# EAGLE library part CPL-REG-SWI-5V-3A (library TinWhiskers)
Voltage Regulator: Switching, Buck-type, Vout=5.0V, Iout=3A; Package: TO263-5 Datasheet: http://www.micrel.com/_PDF/lm2576.pdf
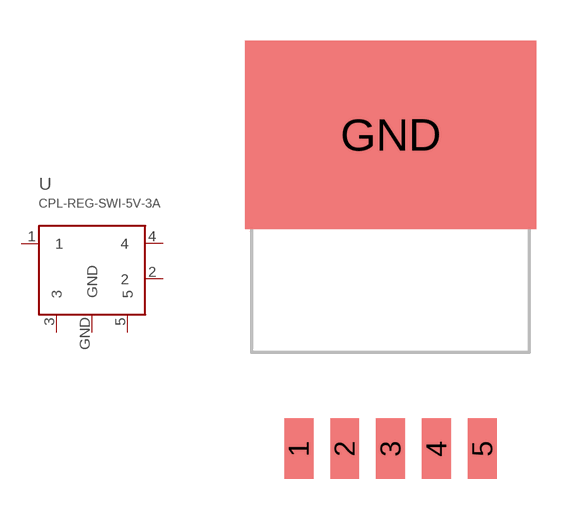
[diagram p17: symbol with the pads of TO263-5; footprint TO263-5]

Designator prefix U

## CPL-REG-SWI-5V-3A  [TO263-5]
1  1
2  2
3  3
4  4
5  5
GND  GND

## Footprint TO263-5 (pad centres in mm)
Package: TO263-5 (5-Pin); Datasheet: http://www.micrel.com/_PDF/lm2576.pdf
smd 1.07 x 2.25: 1 -3.4,-8.13; 2 -1.7,-8.13; 3 0,-8.13; 4 1.7,-8.13; 5 3.4,-8.13
smd 10.8 x 6.99: GND 0,3.495